# Altium schematic symbol library 2-1623928-8.SchLib: 1 symbol
Pins are listed as number, name and electrical type; pins without a type are passive.

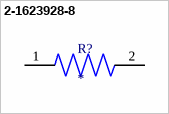
[diagram p0: symbol 2-1623928-8]

## 2-1623928-8
designator R?
CFR16 5% 10K; MP: 2-1623928-8; MF: {'manufacturer': u'TE Connectivity'}; Package: None; Availability: Unavailable; Price: None; Value: *
footprint RESAD700W45L350D185
pins: 1, 2